# Altium footprint library PC104_44B0 V3.0.PcbLib: 40 footprints (part 2 of 3)
Each footprint in its own frame and in the unit in brackets; x right, y up, seen from the top. Pads: shape width x height; smd on the part's side, far side on the other; paste and mask are expansions set on the pad; w line width, h text height; cw(c..) or ccw(c..) is an arc to the next point about the centre after c.
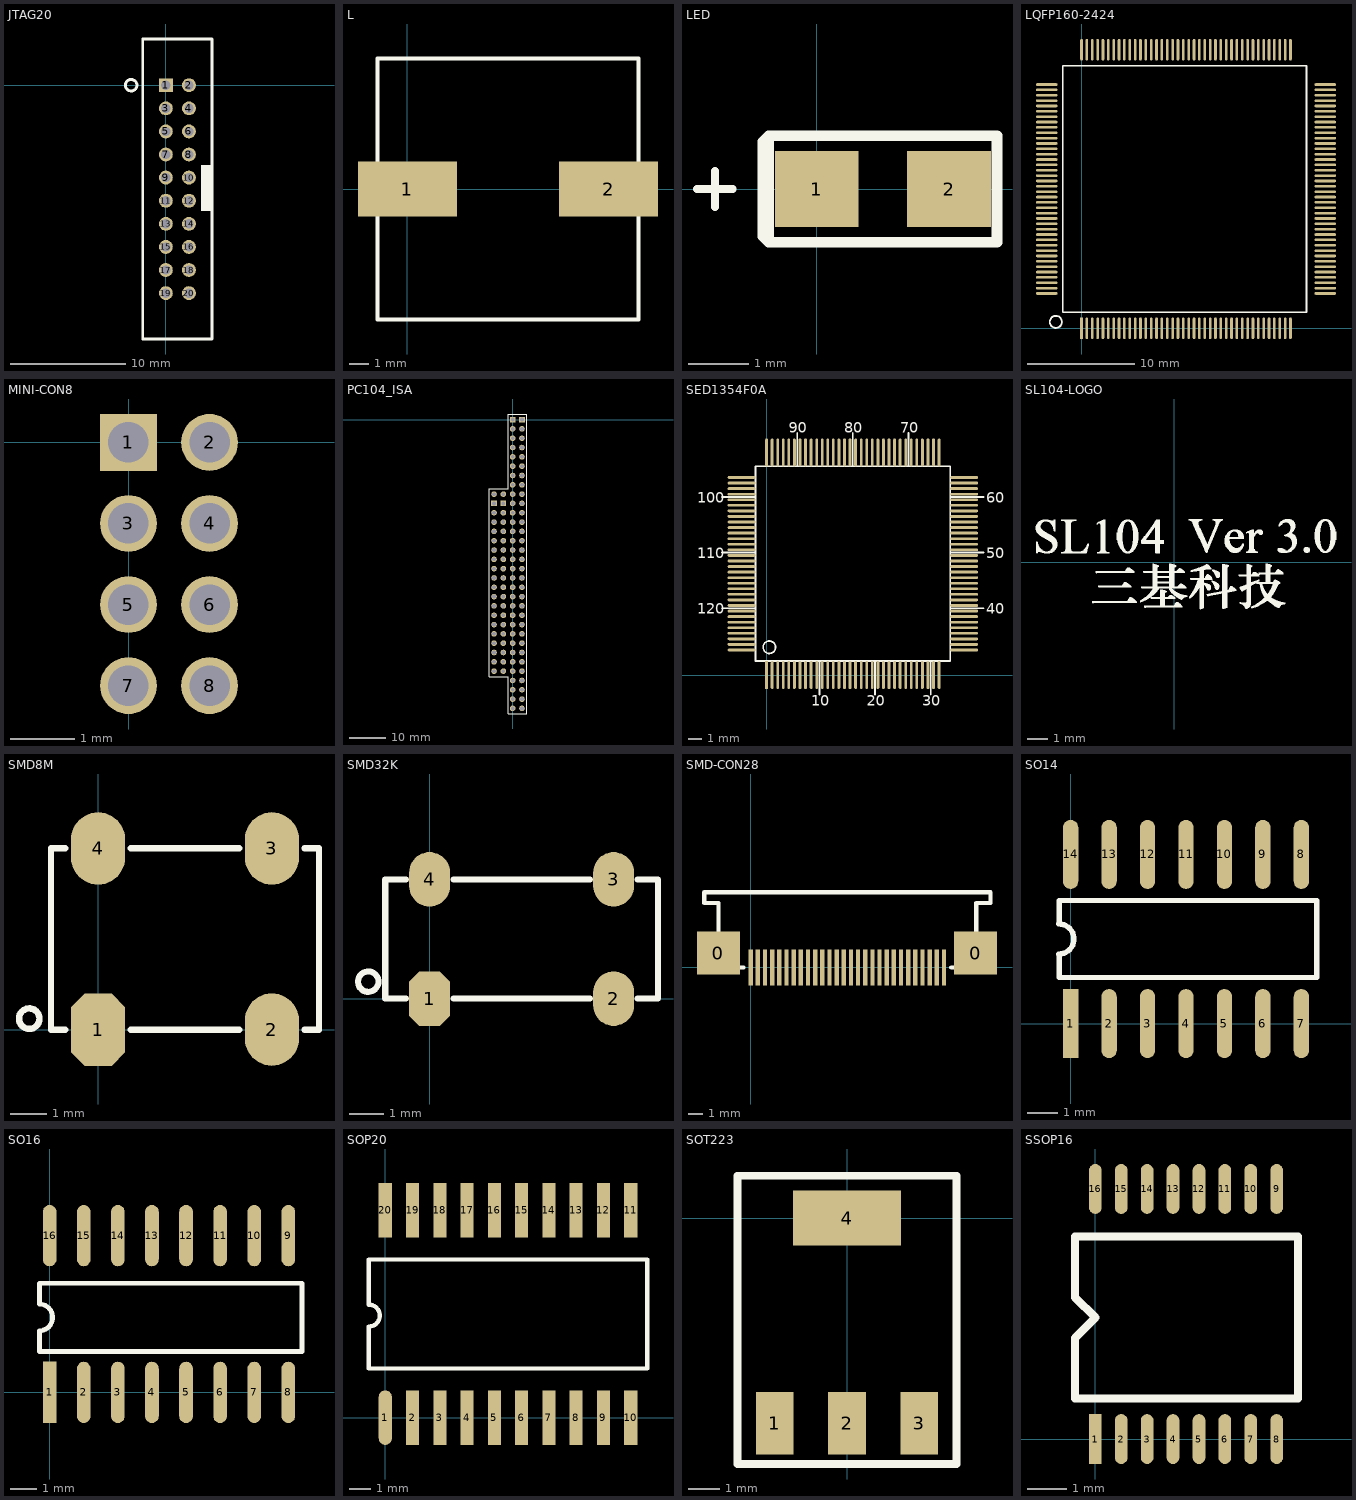
[diagram p1: the footprints below, top view; thin cyan lines are the x and y axes]

## JTAG20 [mm]
pads (20):
  rect 1.2x1.2 hole 0.8: 1(0,0)
  round 1.2 hole 0.8: 2(2,0) 3(0,-2) 4(2,-2) 5(0,-4) 6(2,-4) 7(0,-6) 8(2,-6) 9(0,-8) 10(2,-8) 11(0,-10) 12(2,-10) 13(0,-12) 14(2,-12) 15(0,-14) 16(2,-14) 17(0,-16) 18(2,-16) 19(0,-18) 20(2,-18)
TopOverlay:
  circle w0.254: c-3,0 r0.5
  rectangle: 3.048,-8.893 4.048,-6.893
  rectangle: 3.048,-10.89 4.048,-8.89
  lines w0.254: -2,-21.971 -2,4 -1,4 3,4 4,4 4,-21.971 -2,-21.971

## L [mm]
pads (2):
  rect 5x2.8 smd: 1(0,0) 2(10.16,0)
TopOverlay:
  lines w0.203: -1.524,-6.604 -1.524,0 -1.524,6.604 11.684,6.604 11.684,-6.604 -1.524,-6.604

## LED [mm]
pads (2):
  rect 1.4x1.27 smd: 1(0,0) 2(2.21,0)
TopOverlay:
  lines w0.127: -2,0 -1.5,0 -1.4,0 ; -1.7,-0.3 -1.7,0.3
  lines w0.178: -0.901,-0.788 -0.8,-0.889 ; -0.901,-0.788 -0.8,-0.889 ; -0.901,-0.788 -0.901,0.788 -0.8,0.889 ; -0.8,-0.889 -0.8,0 -0.8,0.889 ; -0.8,-0.889 3.01,-0.889 3.01,0.889 -0.8,0.889

## LQFP160-2424 [mm]
pads (160):
  rect 0.25x2 smd: 1(0,0)
  oval 0.25x2 smd: 2(0.5,0) 3(1,0) 4(1.5,0) 5(2,0) 6(2.5,0) 7(3,0) 8(3.5,0) 9(4,0) 10(4.5,0) 11(5,0) 12(5.5,0) 13(6,0) 14(6.5,0) 15(7,0) 16(7.5,0) 17(8,0) 18(8.5,0) 19(9,0) 20(9.5,0) 21(10,0) 22(10.5,0) 23(11,0) 24(11.5,0) 25(12,0) 26(12.5,0) 27(13,0) 28(13.5,0) 29(14,0) 30(14.5,0) 31(15,0) 32(15.5,0) 33(16,0) 34(16.5,0) 35(17,0) 36(17.5,0) 37(18,0) 38(18.5,0) 39(19,0) 40(19.5,0) 81(19.5,26) 82(19,26) 83(18.5,26) 84(18,26) 85(17.5,26) 86(17,26) 87(16.5,26) 88(16,26) 89(15.5,26) 90(15,26) 91(14.5,26) 92(14,26) 93(13.5,26) 94(13,26) 95(12.5,26) 96(12,26) 97(11.5,26) 98(11,26) 99(10.5,26) 100(10,26) 101(9.5,26) 102(9,26) 103(8.5,26) 104(8,26) 105(7.5,26) 106(7,26) 107(6.5,26) 108(6,26) 109(5.5,26) 110(5,26) 111(4.5,26) 112(4,26) 113(3.5,26) 114(3,26) 115(2.5,26) 116(2,26) 117(1.5,26) 118(1,26) 119(0.5,26) 120(0,26)
  oval 2x0.25 smd: 41(22.75,3.25) 42(22.75,3.75) 43(22.75,4.25) 44(22.75,4.75) 45(22.75,5.25) 46(22.75,5.75) 47(22.75,6.25) 48(22.75,6.75) 49(22.75,7.25) 50(22.75,7.75) 51(22.75,8.25) 52(22.75,8.75) 53(22.75,9.25) 54(22.75,9.75) 55(22.75,10.25) 56(22.75,10.75) 57(22.75,11.25) 58(22.75,11.75) 59(22.75,12.25) 60(22.75,12.75) 61(22.75,13.25) 62(22.75,13.75) 63(22.75,14.25) 64(22.75,14.75) 65(22.75,15.25) 66(22.75,15.75) 67(22.75,16.25) 68(22.75,16.75) 69(22.75,17.25) 70(22.75,17.75) 71(22.75,18.25) 72(22.75,18.75) 73(22.75,19.25) 74(22.75,19.75) 75(22.75,20.25) 76(22.75,20.75) 77(22.75,21.25) 78(22.75,21.75) 79(22.75,22.25) 80(22.75,22.75) 121(-3.25,22.75) 122(-3.25,22.25) 123(-3.25,21.75) 124(-3.25,21.25) 125(-3.25,20.75) 126(-3.25,20.25) 127(-3.25,19.75) 128(-3.25,19.25) 129(-3.25,18.75) 130(-3.25,18.25) 131(-3.25,17.75) 132(-3.25,17.25) 133(-3.25,16.75) 134(-3.25,16.25) 135(-3.25,15.75) 136(-3.25,15.25) 137(-3.25,14.75) 138(-3.25,14.25) 139(-3.25,13.75) 140(-3.25,13.25) 141(-3.25,12.75) 142(-3.25,12.25) 143(-3.25,11.75) 144(-3.25,11.25) 145(-3.25,10.75) 146(-3.25,10.25) 147(-3.25,9.75) 148(-3.25,9.25) 149(-3.25,8.75) 150(-3.25,8.25) 151(-3.25,7.75) 152(-3.25,7.25) 153(-3.25,6.75) 154(-3.25,6.25) 155(-3.25,5.75) 156(-3.25,5.25) 157(-3.25,4.75) 158(-3.25,4.25) 159(-3.25,3.75) 160(-3.25,3.25)
TopOverlay:
  circle w0.178: c-2.4,0.6 r0.566
  lines w0.178: -1.75,1.5 21,1.5 21,24.5 -1.75,24.5 -1.75,1.5

## MINI-CON8 [mil]
pads (8):
  rect 35x35 hole 25: 1(-0.3,0)
  round 35 hole 25: 2(49.7,0) 3(-0.3,-50) 4(49.7,-50) 5(-0.3,-100) 6(49.7,-100) 7(-0.3,-150) 8(49.7,-150)

## PC104_ISA [mil]
pads (104):
  rect 60x60 hole 40: A1(0,0) B1(100,0) C1(-100,-900) D1(-200,-900)
  round 60 hole 40: A2(0,-100) A3(0,-200) A4(0,-300) A5(0,-400) A6(0,-500) A7(0,-600) A8(0,-700) A9(0,-800) A10(0,-900) A11(0,-1000) A12(0,-1100) A13(0,-1200) A14(0,-1300) A15(0,-1400) A16(0,-1500) A17(0,-1600) A18(0,-1700) A19(0,-1800) A20(0,-1900) A21(0,-2000) A22(0,-2100) A23(0,-2200) A24(0,-2300) A25(0,-2400) A26(0,-2500) A27(0,-2600) A28(0,-2700) A29(0,-2800) A30(0,-2900) A31(0,-3000) A32(0,-3100) B2(100,-100) B3(100,-200) B4(100,-300) B5(100,-400) B6(100,-500) B7(100,-600) B8(100,-700) B9(100,-800) B10(100,-900) B11(100,-1000) B12(100,-1100) B13(100,-1200) B14(100,-1300) B15(100,-1400) B16(100,-1500) B17(100,-1600) B18(100,-1700) B19(100,-1800) B20(100,-1900) B21(100,-2000) B22(100,-2100) B23(100,-2200) B24(100,-2300) B25(100,-2400) B26(100,-2500) B27(100,-2600) B28(100,-2700) B29(100,-2800) B30(100,-2900) B31(100,-3000) B32(100,-3100) C0(-100,-800) C2(-100,-1000) C3(-100,-1100) C4(-100,-1200) C5(-100,-1300) C6(-100,-1400) C7(-100,-1500) C8(-100,-1600) C9(-100,-1700) C10(-100,-1800) C11(-100,-1900) C12(-100,-2000) C13(-100,-2100) C14(-100,-2200) C15(-100,-2300) C16(-100,-2400) C17(-100,-2500) C18(-100,-2600) C19(-100,-2700) D0(-200,-800) D2(-200,-1000) D3(-200,-1100) D4(-200,-1200) D5(-200,-1300) D6(-200,-1400) D7(-200,-1500) D8(-200,-1600) D9(-200,-1700) D10(-200,-1800) D11(-200,-1900) D12(-200,-2000) D13(-200,-2100) D14(-200,-2200) D15(-200,-2300) D16(-200,-2400) D17(-200,-2500) D18(-200,-2600) D19(-200,-2700)
TopOverlay:
  lines w10: -250,-2760 -250,-740 -50,-740 -50,60 150,60 150,-3160 -50,-3160 -50,-2760 -250,-2760

## SED1354F0A [mm]
pads (128):
  rect 0.2x2 smd: 1(0,0)
  oval 0.2x2 smd: 2(0.4,0) 3(0.8,0) 4(1.2,0) 5(1.6,0) 6(2,0) 7(2.4,0) 8(2.8,0) 9(3.2,0) 10(3.6,0) 11(4,0) 12(4.4,0) 13(4.8,0) 14(5.2,0) 15(5.6,0) 16(6,0) 17(6.4,0) 18(6.8,0) 19(7.2,0) 20(7.6,0) 21(8,0) 22(8.4,0) 23(8.8,0) 24(9.2,0) 25(9.6,0) 26(10,0) 27(10.4,0) 28(10.8,0) 29(11.2,0) 30(11.6,0) 31(12,0) 32(12.4,0) 65(12.4,16) 66(12,16) 67(11.6,16) 68(11.2,16) 69(10.8,16) 70(10.4,16) 71(10,16) 72(9.6,16) 73(9.2,16) 74(8.8,16) 75(8.4,16) 76(8,16) 77(7.6,16) 78(7.2,16) 79(6.8,16) 80(6.4,16) 81(6,16) 82(5.6,16) 83(5.2,16) 84(4.8,16) 85(4.4,16) 86(4,16) 87(3.6,16) 88(3.2,16) 89(2.8,16) 90(2.4,16) 91(2,16) 92(1.6,16) 93(1.2,16) 94(0.8,16) 95(0.4,16) 96(0,16)
  oval 2x0.2 smd: 33(14.2,1.8) 34(14.2,2.2) 35(14.2,2.6) 36(14.2,3) 37(14.2,3.4) 38(14.2,3.8) 39(14.2,4.2) 40(14.2,4.6) 41(14.2,5) 42(14.2,5.4) 43(14.2,5.8) 44(14.2,6.2) 45(14.2,6.6) 46(14.2,7) 47(14.2,7.4) 48(14.2,7.8) 49(14.2,8.2) 50(14.2,8.6) 51(14.2,9) 52(14.2,9.4) 53(14.2,9.8) 54(14.2,10.2) 55(14.2,10.6) 56(14.2,11) 57(14.2,11.4) 58(14.2,11.8) 59(14.2,12.2) 60(14.2,12.6) 61(14.2,13) 62(14.2,13.4) 63(14.2,13.8) 64(14.2,14.2) 97(-1.8,14.2) 98(-1.8,13.8) 99(-1.8,13.4) 100(-1.8,13) 101(-1.8,12.6) 102(-1.8,12.2) 103(-1.8,11.8) 104(-1.8,11.4) 105(-1.8,11) 106(-1.8,10.6) 107(-1.8,10.2) 108(-1.8,9.8) 109(-1.8,9.4) 110(-1.8,9) 111(-1.8,8.6) 112(-1.8,8.2) 113(-1.8,7.8) 114(-1.8,7.4) 115(-1.8,7) 116(-1.8,6.6) 117(-1.8,6.2) 118(-1.8,5.8) 119(-1.8,5.4) 120(-1.8,5) 121(-1.8,4.6) 122(-1.8,4.2) 123(-1.8,3.8) 124(-1.8,3.4) 125(-1.8,3) 126(-1.8,2.6) 127(-1.8,2.2) 128(-1.8,1.8)
TopOverlay:
  circle w0.127: c0.2,2 r0.447
  lines w0.127: -3.2,4.8 -0.8,4.8 ; -3.2,8.8 -0.8,8.8 ; -3.2,12.8 -0.8,12.8 ; 2.2,15 2.2,17.4 ; 3.8,-1.4 3.8,1 ; 6.2,15 6.2,17.4 ; 7.8,-1.4 7.8,1 ; 10.2,15 10.2,17.4 ; 11.8,-1.4 11.8,1 ; 13.2,4.8 15.6,4.8 ; 13.2,8.8 15.6,8.8 ; 13.2,12.8 15.6,12.8 ; -0.8,1 -0.8,15 13.2,15 13.2,1 -0.8,1
  text "120" at -5,4.4 h0.76
  text "110" at -5,8.4 h0.76
  text "100" at -5,12.4 h0.76
  text "90" at 1.6,17.4 h0.76
  text "80" at 5.6,17.4 h0.76
  text "70" at 9.6,17.4 h0.76
  text "60" at 15.8,12.4 h0.76
  text "50" at 15.8,8.4 h0.76
  text "40" at 15.8,4.4 h0.76
  text "30" at 11.2,-2.2 h0.76
  text "20" at 7.2,-2.2 h0.76
  text "10" at 3.2,-2.2 h0.76

## SL104-LOGO [mm]
TopOverlay:
  drawing of 3340 lines, arcs and shapes, not listed

## SMD8M [mm]
pads (4):
  oct 1.5x2 smd: 1(0,0)
  oval 1.5x2 smd: 2(4.8,0) 3(4.8,5) 4(0,5)
TopOverlay:
  circle w0.178: c-1.9,0.3 r0.283
  lines w0.178: -0.9,0 -1.3,0 -1.3,5 -0.9,5 ; 0.9,0 3.9,0 ; 0.9,5 3.9,5 ; 5.7,0 6.1,0 6.1,5 5.7,5

## SMD32K [mm]
pads (4):
  oct 1.2x1.6 smd: 1(-0.01,0)
  oval 1.2x1.6 smd: 2(5.39,0) 3(5.39,3.5) 4(-0.01,3.5)
TopOverlay:
  circle w0.178: c-1.81,0.5 r0.3
  lines w0.178: -0.71,0 -1.31,0 -1.31,3.5 -0.71,3.5 ; 0.69,0 4.69,0 ; 0.69,3.5 4.69,3.5 ; 6.09,0 6.69,0 6.69,3.5 6.09,3.5

## SMD-CON28 [mm]
pads (30):
  rect 3x3 smd: 0(-2.25,1) 0(15.7,1)
  rect 0.3x2.54 smd: 1(0,0) 2(0.5,0) 3(1,0) 4(1.5,0) 5(2,0) 6(2.5,0) 7(3,0) 8(3.5,0) 9(4,0) 10(4.5,0) 11(5,0) 12(5.5,0) 13(6,0) 14(6.5,0) 15(7,0) 16(7.5,0) 17(8,0) 18(8.5,0) 19(9,0) 20(9.5,0) 21(10,0) 22(10.5,0) 23(11,0) 24(11.5,0) 25(12,0) 26(12.5,0) 27(13,0) 28(13.5,0)
TopOverlay:
  lines w0.305: -0.5,0 -2.25,0 -2.25,4.5 -3.25,4.5 -3.25,5.25 -2.25,5.25 5.75,5.25 15.75,5.25 16.75,5.25 16.75,4.5 15.75,4.5 15.75,0 14,0 ; 2.25,5.25 9.5,5.25

## SO14 [mil]
pads (14):
  rect 20x90 smd: 1(0,0)
  oval 20x90 smd: 2(50,0) 3(100,0) 4(150,0) 5(200,0) 6(250,0) 7(300,0) 8(300,220) 9(250,220) 10(200,220) 11(150,220) 12(100,220) 13(50,220) 14(0,220)
TopOverlay:
  lines w7: -15.35,90.31 ccw(c-15.35,110) -15.35,129.69 ; -15,90 -15,60 170,60 320,60 320,160 170,160 -15,160 -15,130

## SO16 [mil]
pads (16):
  rect 20x90 smd: 1(0,0)
  oval 20x90 smd: 2(50,0) 3(100,0) 4(150,0) 5(200,0) 6(250,0) 7(300,0) 8(350,0) 9(350,230) 10(300,230) 11(250,230) 12(200,230) 13(150,230) 14(100,230) 15(50,230) 16(0,230)
TopOverlay:
  lines w7: -15.35,90.31 ccw(c-15.35,110) -15.35,129.69 ; -15,90 -15,60 170,60 370,60 370,160 170,160 -15,160 -15,130

## SOP20 [mil]
pads (20):
  oval 24x100 smd: 1(0,0)
  rect 24x100 smd: 2(50,0) 3(100,0) 4(150,0) 5(200,0) 6(250,0) 7(300,0) 8(350,0) 9(400,0) 10(450,0) 11(450,380) 12(400,380) 13(350,380) 14(300,380) 15(250,380) 16(200,380) 17(150,380) 18(100,380) 19(50,380) 20(0,380)
TopOverlay:
  lines w8: -30,90 -30,167 ccw(c-30,187) -30,207 -30,290 480,290 480,90 -30,90

## SOT223 [mm]
pads (4):
  rect 1.2x2 smd: 1(-2.308,-6.55) 2(-0.008,-6.55) 3(2.292,-6.55)
  rect 3.45x1.75 smd: 4(-0.008,0)
TopOverlay:
  lines w0.25: -3.508,-7.85 3.492,-7.85 3.492,1.35 -3.508,1.35 -3.508,-7.85

## SSOP16 [mm]
pads (16):
  rect 0.32x1.25 smd: 1(0,0)
  oval 0.32x1.25 smd: 2(0.65,0) 3(1.3,0) 4(1.95,0) 5(2.6,0) 6(3.25,0) 7(3.9,0) 8(4.55,0) 9(4.55,6.276) 10(3.9,6.276) 11(3.25,6.276) 12(2.6,6.276) 13(1.95,6.276) 14(1.3,6.276) 15(0.65,6.276) 16(0,6.276)
TopOverlay:
  lines w0.203: -0.508,1.016 5.08,1.016 5.08,5.08 -0.508,5.08 -0.508,3.556 0,3.048 -0.508,2.54 -0.508,1.016